# Altium footprint library som1.PcbLib: 1 footprints
Each footprint in its own frame and in the unit in brackets; x right, y up, seen from the top. Pads: shape width x height; smd on the part's side, far side on the other; paste and mask are expansions set on the pad; w line width, h text height; cw(c..) or ccw(c..) is an arc to the next point about the centre after c.
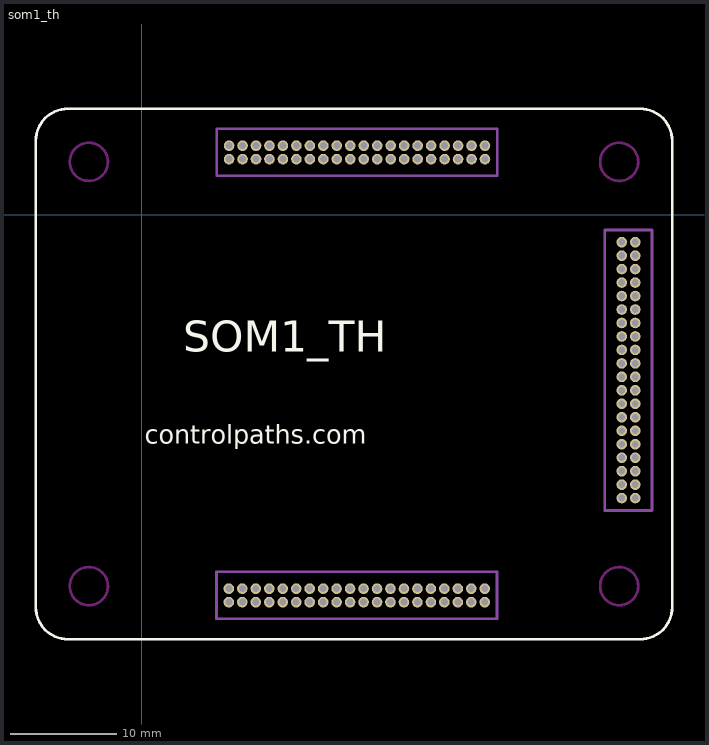
[diagram p0: the footprint, top view; thin cyan lines are the x and y axes]

## som1_th [mm]
pads (120):
  rrect100% 1x1 hole 0.65: 1_1(8.22,6.53) 1_2(8.22,5.26) 1_3(9.49,6.53) 1_4(9.49,5.26) 1_5(10.76,6.53) 1_6(10.76,5.26) 1_7(12.03,6.53) 1_8(12.03,5.26) 1_9(13.3,6.53) 1_10(13.3,5.26) 1_11(14.57,6.53) 1_12(14.57,5.26) 1_13(15.84,6.53) 1_14(15.84,5.26) 1_15(17.11,6.53) 1_16(17.11,5.26) 1_17(18.38,6.53) 1_18(18.38,5.26) 1_19(19.65,6.53) 1_20(19.65,5.26) 1_21(20.92,6.53) 1_22(20.92,5.26) 1_23(22.19,6.53) 1_24(22.19,5.26) 1_25(23.46,6.53) 1_26(23.46,5.26) 1_27(24.73,6.53) 1_28(24.73,5.26) 1_29(26,6.53) 1_30(26,5.26) 1_31(27.27,6.53) 1_32(27.27,5.26) 1_33(28.54,6.53) 1_34(28.54,5.26) 1_35(29.81,6.53) 1_36(29.81,5.26) 1_37(31.08,6.53) 1_38(31.08,5.26) 1_40(32.35,5.26) 2_1(32.33,-36.51) 2_3(31.06,-36.51) 2_4(31.06,-35.24) 2_5(29.79,-36.51) 2_6(29.79,-35.24) 2_7(28.52,-36.51) 2_8(28.52,-35.24) 2_9(27.25,-36.51) 2_10(27.25,-35.24) 2_11(25.98,-36.51) 2_12(25.98,-35.24) 2_13(24.71,-36.51) 2_14(24.71,-35.24) 2_15(23.44,-36.51) 2_16(23.44,-35.24) 2_17(22.17,-36.51) 2_18(22.17,-35.24) 2_19(20.9,-36.51) 2_20(20.9,-35.24) 2_21(19.63,-36.51) 2_22(19.63,-35.24) 2_23(18.36,-36.51) 2_24(18.36,-35.24) 2_25(17.09,-36.51) 2_26(17.09,-35.24) 2_27(15.82,-36.51) 2_28(15.82,-35.24) 2_29(14.55,-36.51) 2_30(14.55,-35.24) 2_31(13.28,-36.51) 2_32(13.28,-35.24) 2_33(12.01,-36.51) 2_34(12.01,-35.24) 2_35(10.74,-36.51) 2_36(10.74,-35.24) 2_37(9.47,-36.51) 2_38(9.47,-35.24) 2_39(8.2,-36.51) 2_40(8.2,-35.24) 3_1(45.245,-26.7) 3_2(46.515,-26.7) 3_3(45.245,-25.43) 3_4(46.515,-25.43) 3_5(45.245,-24.16) 3_6(46.515,-24.16) 3_7(45.245,-22.89) 3_8(46.515,-22.89) 3_9(45.245,-21.62) 3_10(46.515,-21.62) 3_11(45.245,-20.35) 3_12(46.515,-20.35) 3_13(45.245,-19.08) 3_14(46.515,-19.08) 3_15(45.245,-17.81) 3_16(46.515,-17.81) 3_17(45.245,-16.54) 3_18(46.515,-16.54) 3_19(45.245,-15.27) 3_20(46.515,-15.27) 3_21(45.245,-14) 3_22(46.515,-14) 3_23(45.245,-12.73) 3_24(46.515,-12.73) 3_25(45.245,-11.46) 3_26(46.515,-11.46) 3_27(45.245,-10.19) 3_28(46.515,-10.19) 3_29(45.245,-8.92) 3_30(46.515,-8.92) 3_31(45.245,-7.65) 3_32(46.515,-7.65) 3_33(45.245,-6.38) 3_34(46.515,-6.38) 3_35(45.245,-5.11) 3_36(46.515,-5.11) 3_37(45.245,-3.84) 3_38(46.515,-3.84) 3_40(46.515,-2.57)
  round 1 hole 0.65: 1_39(32.35,6.53) 2_2(32.33,-35.24) 3_39(45.245,-2.57)
F.SilkS:
  lines w0.254: -10,-37 -10,7 cw(c-7,7) -7,10 47,10 cw(c47,7) 50,7 50,-37 cw(c47,-37) 47,-40 -7,-40 cw(c-7,-37) -10,-37
  text "SOM1_TH" at 3.88,-13.902 h5
  text "controlpaths.com" at 0.26,-22.179 h3
Edge.Cuts:
  circle w0.254: c-5,5 r1.8
  circle w0.254: c-5,-35 r1.8
  circle w0.254: c45,5 r1.8
  circle w0.254: c45,-35 r1.8
F.Fab:
  text "'.Designator'" at 19.043,-2.248 h1
F.CrtYd:
  lines w0.254: 7.03,-38.09 7.03,-33.64 33.48,-33.64 33.48,-38.09 7.03,-38.09 ; 7.05,3.68 7.05,8.13 33.5,8.13 33.5,3.68 7.05,3.68 ; 43.645,-27.87 43.645,-1.42 48.095,-1.42 48.095,-27.87 43.645,-27.87